# Altium footprint library AudioLib.PcbLib: 2 footprints
Each footprint in its own frame and in the unit in brackets; x right, y up, seen from the top. Pads: shape width x height; smd on the part's side, far side on the other; paste and mask are expansions set on the pad; w line width, h text height; cw(c..) or ccw(c..) is an arc to the next point about the centre after c.
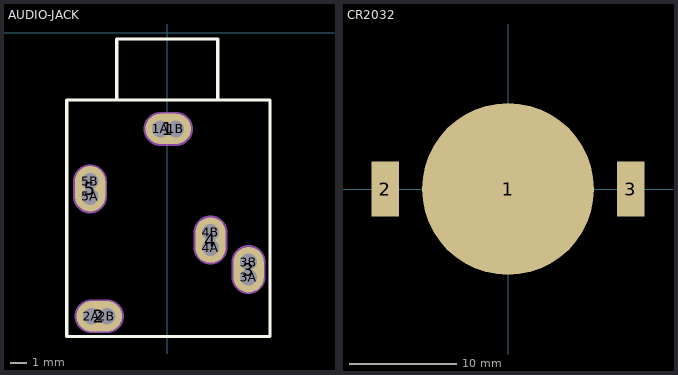
[diagram p0: the footprints below, top view; thin cyan lines are the x and y axes]

## AUDIO-JACK [mm] "Connector; Stereo Jack, 3.5mm, 5 Position"
pads (15):
  oval 2.7x1.8 all layers, no hole: 1(0.058,-5.715) 2(-4.032,-16.831)
  round 1.2 hole 1: 1A(-0.392,-5.715) 1B(0.508,-5.715) 2A(-4.482,-16.831) 2B(-3.582,-16.831) 3A(4.831,-14.515) 3B(4.831,-13.615) 4A(2.57,-12.762) 4B(2.57,-11.862) 5A(-4.572,-9.721) 5B(-4.572,-8.821)
  oval 1.8x2.7 all layers, no hole: 3(4.831,-14.065) 4(2.57,-12.312) 5(-4.572,-9.271)
Top Overlay:
  lines w0.2: -3,-4 -3,-0.381 3,-0.381 3,-4 ; 0.1,-18.034 6.096,-18.034 6.096,-4 -5.969,-4 -5.969,-18.034 0.508,-18.034
Mechanical 1:
  lines w1: -4.572,-9.721 -4.572,-8.821 ; -4.482,-16.831 -3.582,-16.831 ; -0.392,-5.715 0.508,-5.715 ; 2.57,-12.762 2.57,-11.862 ; 4.831,-14.515 4.831,-13.615
  text "Alert PCB fab to slot details" at -7.226,1.874 h0.3
  text "Slot 1x1.9mm, PTH" at -7.226,1.374 h0.3
  text "Assign keep-out area to slot" at -7.226,2.374 h0.3
  text "Mech 1 - Slot cut-out" at -7.226,0.874 h0.3
  text "Mech 2 - Clearance, move to internal plane if present" at -7.226,0.374 h0.3
Mechanical 2:
  lines w2.016: -4.572,-9.721 -4.572,-8.821 ; -4.482,-16.831 -3.582,-16.831 ; -0.392,-5.715 0.508,-5.715 ; 2.57,-12.762 2.57,-11.862 ; 4.831,-14.515 4.831,-13.615

## CR2032 [mil]
pads (3):
  round 630 smd: 1(0,0)
  rect 100x200 smd: 2(-450,0) 3(450,0)
Top Overlay:
  text ".Designator" at 0,1.32 h0.21
Mechanical 2:
  text ".Pattern" at 0,0 h0.21
  text "CON2_0" at 0,0.43 h0.21
  text ".Comment" at 0,0.87 h0.21
  text ".Designator" at 0,1.32 h0.21